# Altium schematic symbol library SamacSys.SchLib: 5 symbols
Pins are listed as number, name and electrical type; pins without a type are passive.

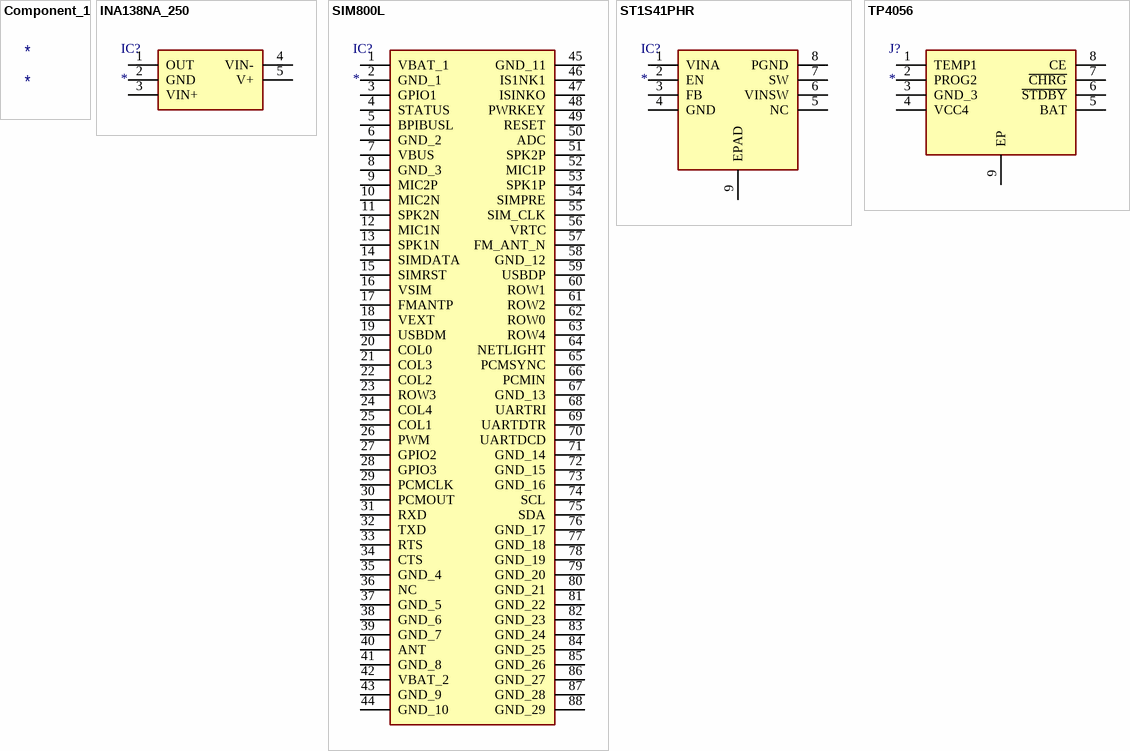
[diagram p0: symbols Component_1 to TP4056]

## Component_1
designator *

## INA138NA_250
designator IC?
Integrated Circuit; Manufacturer_Name: Texas Instruments; Manufacturer_Part_Number: INA138NA/250; Description: 36V; Datasheet Link: http://www.ti.com/lit/ds/symlink/ina138.pdf; Height: 1.45mm; Mouser Part Number: 595-INA138NA/250; Mouser Price/Stock: https://www.mouser.co.uk/ProductDetail/Texas-Instruments/INA138NA-250?qs=VBduBm9rCJT3HwLFPta9GA%3D%3D; Arrow Part Number: INA138NA/250; Arrow Price/Stock: https://www.arrow.com/en/products/ina138na250/texas-instruments?region=nac
footprint SOT95P280X145-5N
pins: 1 OUT, 2 GND, 3 VIN+, 4 VIN-, 5 V+

## SIM800L
designator IC?
Integrated Circuit; Manufacturer_Name: SIMCOM; Manufacturer_Part_Number: SIM800L; Description: Quad-band GSM/GPRS solution in a LGA type package; Datasheet Link: http://img.filipeflop.com/files/download/Datasheet_SIM800L.pdf; Height: 2.55mm
footprint SIM800L (Footprint not found)
pins: 1 VBAT_1, 2 GND_1, 3 GPIO1, 4 STATUS, 5 BPIBUSL, 6 GND_2, 7 VBUS, 8 GND_3, 9 MIC2P, 10 MIC2N, 11 SPK2N, 12 MIC1N, 13 SPK1N, 14 SIMDATA, 15 SIMRST, 16 VSIM, 17 FMANTP, 18 VEXT, 19 USBDM, 20 COL0, 21 COL3, 22 COL2, 23 ROW3, 24 COL4, 25 COL1, 26 PWM, 27 GPIO2, 28 GPIO3, 29 PCMCLK, 30 PCMOUT, 31 RXD, 32 TXD, 33 RTS, 34 CTS, 35 GND_4, 36 NC, 37 GND_5, 38 GND_6, 39 GND_7, 40 ANT, 41 GND_8, 42 VBAT_2, 43 GND_9, 44 GND_10, 45 GND_11, 46 IS1NK1, 47 ISINKO, 48 PWRKEY, 49 RESET, 50 ADC, 51 SPK2P, 52 MIC1P, 53 SPK1P, 54 SIMPRE, 55 SIM_CLK, 56 VRTC, 57 FM_ANT_N, 58 GND_12, 59 USBDP, 60 ROW1, 61 ROW2, 62 ROW0, 63 ROW4, 64 NETLIGHT, 65 PCMSYNC, 66 PCMIN, 67 GND_13, 68 UARTRI, 69 UARTDTR, 70 UARTDCD, 71 GND_14, 72 GND_15, 73 GND_16, 74 SCL, 75 SDA, 76 GND_17, 77 GND_18, 78 GND_19, 79 GND_20, 80 GND_21, 81 GND_22, 82 GND_23, 83 GND_24, 84 GND_25, 85 GND_26, 86 GND_27, 87 GND_28, 88 GND_29

## ST1S41PHR
designator IC?
Integrated Circuit; Manufacturer_Name: STMicroelectronics; Manufacturer_Part_Number: ST1S41PHR; Description: Conv DC-DC 4V to 18V Step Down Single-Out 0.8V to 18V 4A 8-Pin HSOP EP T/R; Datasheet Link: https://www.st.com/resource/en/datasheet/st1s41.pdf; Height: 1.7mm; Mouser Part Number: 511-ST1S41PHR; Mouser Price/Stock: https://www.mouser.co.uk/ProductDetail/STMicroelectronics/ST1S41PHR?qs=GlLcxsc1hfH42vbX3xy6fg%3D%3D; Arrow Part Number: ST1S41PHR; Arrow Price/Stock: https://www.arrow.com/en/products/st1s41phr/stmicroelectronics?region=nac
footprint SOIC127P600X170-9N
pins: 1 VINA, 2 EN, 3 FB, 4 GND, 5 NC, 6 VINSW, 7 SW, 8 PGND, 9 EPAD

## TP4056
designator J?
Connector; Manufacturer_Name: NanJing Top Power; Manufacturer_Part_Number: TP4056; Description: 1A Standalone Linear Li-lon Battery Charger; Datasheet Link: https://dlnmh9ip6v2uc.cloudfront.net/datasheets/Prototyping/TP4056.pdf; Height: 1.75mm
footprint SOIC127P600X175-9N
pins: 1 TEMP1, 2 PROG2, 3 GND_3, 4 VCC4, 5 BAT, 6 ~{STDBY}, 7 ~{CHRG}, 8 CE, 9 EP